# Altium footprint library Plain Ji_PCB_Lib.PcbLib: 31 footprints (part 2 of 2)
Each footprint in its own frame and in the unit in brackets; x right, y up, seen from the top. Pads: shape width x height; smd on the part's side, far side on the other; paste and mask are expansions set on the pad; w line width, h text height; cw(c..) or ccw(c..) is an arc to the next point about the centre after c.
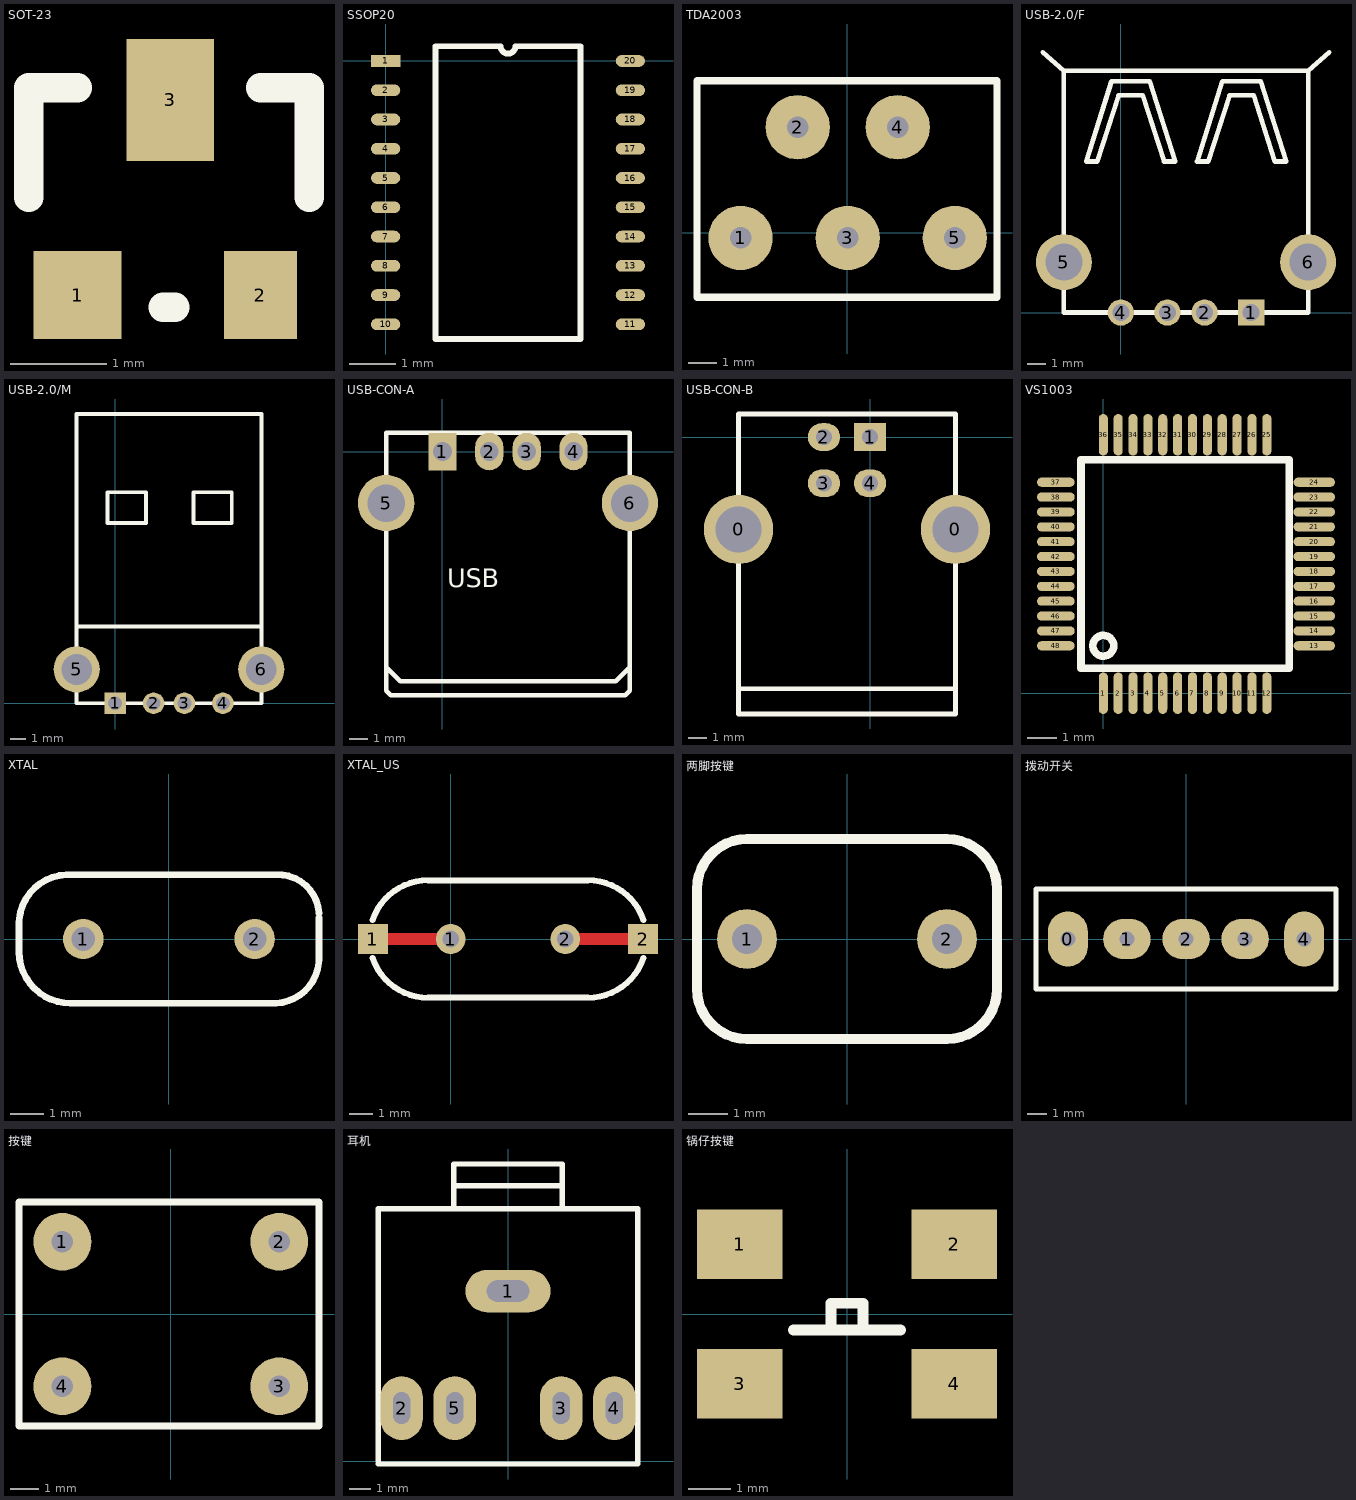
[diagram p1: the footprints below, top view; thin cyan lines are the x and y axes]

## SOT-23 [mil]
pads (3):
  rect 36x36 smd: 1(47.76,-120.28)
  rect 30x36 smd: 2(122.75,-120.28)
  rect 36x50 smd: 3(85.75,-40.28)
Top Overlay:
  lines w12: 27.75,-80.28 27.75,-35.28 47.76,-35.28 ; 82.75,-125.28 87.75,-125.28 ; 122.75,-35.28 142.75,-35.28 142.75,-80.28

## SSOP20 [mil]
pads (20):
  rect 25x10 smd: 1(0,0)
  oval 25x10 smd: 2(0,-25) 3(0,-50) 4(0,-75) 5(0,-100) 6(0,-125) 7(0,-150) 8(0,-175) 9(0,-200) 10(0,-225) 11(209,-225) 12(209,-200) 13(209,-175) 14(209,-150) 15(209,-125) 16(209,-100) 17(209,-75) 18(209,-50) 19(209,-25) 20(209,0)
Top Overlay:
  lines w5: 42.5,-237.5 166.5,-237.5 166.5,12.5 110.75,12.5 cw(c104.5,12.5) 98.25,12.5 42.5,12.5 42.5,-237.5

## TDA2003 [mil]
pads (5):
  round 90 hole 30: 1(-149,-7) 2(-69,148) 3(1,-7) 4(71,148) 5(151,-7)
Top Overlay:
  lines w10: -210,-90 -210,213 210,213 210,-90 -210,-90

## USB-2.0/F [mm]
pads (6):
  rect 1.42x1.42 hole 0.92: 1(7,0)
  round 1.42 hole 0.92: 2(4.5,0) 3(2.5,0) 4(0,0)
  round 3 hole 2: 5(-3.07,2.71) 6(10.07,2.71)
Top Overlay:
  lines w0.254: -4.2,14 -3.07,13.01 ; -3.104,13.01 -3.07,13.01 ; 1.524,12.446 -0.508,12.446 -1.873,8.128 -1.27,8.128 -0.127,11.684 1.175,11.684 2.318,8.128 2.921,8.128 1.556,12.446 ; 7.493,12.446 5.461,12.446 4.096,8.128 4.699,8.128 5.842,11.684 7.144,11.684 8.287,8.128 8.89,8.128 7.525,12.446 ; 10.089,13.01 10.07,13.01 ; 11.2,14 10.07,13.01 ; -3.07,13.01 -3.07,0 10.07,0 10.07,13.01 ; -3.07,13.01 10.07,13.01

## USB-2.0/M [mm]
pads (6):
  rect 1.4x1.4 hole 0.9: 1(0,0)
  round 1.4 hole 0.9: 2(2.5,0) 3(4.5,0) 4(7,0)
  round 3 hole 2: 5(-2.5,2.2) 6(9.5,2.2)
Top Overlay:
  lines w0.254: -2.5,5 9.5,5 ; -2.5,0 -2.5,18.8 9.5,18.8 9.5,0 -2.5,0 ; -0.508,11.716 1.992,11.716 1.992,13.716 -0.508,13.716 -0.508,11.716 ; 5.08,11.716 7.58,11.716 7.58,13.716 5.08,13.716 5.08,11.716

## USB-CON-A [mil]
pads (6):
  rect 60x80 hole 40: 1(0,0)
  oval 60x80 hole 40: 2(100,0) 3(180,0) 4(280,0)
  round 120 hole 80: 5(-120,-110) 6(400,-110)
Top Overlay:
  lines w10: -120,-460 -90,-490 370,-490 400,-460 ; -120,-510 -120,40 400,40 400,-510 390,-520 -110,-520 -120,-510
  text "USB" at 10,-290 h40

## USB-CON-B [mil]
pads (6):
  round 150 hole 100: 0(-285,-200) 0(185,-200)
  rect 70x60 hole 35: 1(0,0)
  oval 70x60 hole 35: 2(-100,0) 3(-100,-100) 4(0,-100)
Top Overlay:
  lines w10: -285,-545 185,-545 ; -285,-230 -285,-600 185,-600 185,-225 ; -285,-170 -285,50 185,50 185,-170

## VS1003 [mil]
pads (48):
  oval 12x55 smd: 1(0,0) 2(19.68,0) 3(39.37,0) 4(59.06,0) 5(78.74,0) 6(98.43,0) 7(118.11,0) 8(137.8,0) 9(157.48,0) 10(177.17,0) 11(196.85,0) 12(216.54,0) 25(216.54,342.2) 26(196.85,342.2) 27(177.17,342.2) 28(157.48,342.2) 29(137.8,342.2) 30(118.11,342.2) 31(98.43,342.2) 32(78.74,342.2) 33(59.06,342.2) 34(39.37,342.2) 35(19.68,342.2) 36(0,342.2)
  oval 55x12 smd: 13(279.37,62.83) 14(279.37,82.52) 15(279.37,102.2) 16(279.37,121.89) 17(279.37,141.57) 18(279.37,161.26) 19(279.37,180.94) 20(279.37,200.63) 21(279.37,220.31) 22(279.37,240) 23(279.37,259.69) 24(279.37,279.37)
  oval 50x12 smd: 37(-62.83,279.37) 38(-62.83,259.69) 39(-62.83,240) 40(-62.83,220.31) 41(-62.83,200.63) 42(-62.83,180.94) 43(-62.83,161.26) 44(-62.83,141.57) 45(-62.83,121.89) 46(-62.83,102.2) 47(-62.83,82.52) 48(-62.83,62.83)
Top Overlay:
  circle w10: c0,62.83 r13.78
  lines w10: -29.53,33.31 246.06,33.31 246.06,308.9 -29.53,308.9 -29.53,33.31

## XTAL [mm]
pads (2):
  round 1.2 hole 0.7: 1(-2.54,0) 2(2.54,0)
Top Overlay:
  lines w0.2: -4.445,0.381 cw(c-2.984,0.445) -3.048,1.905 3.175,1.905 cw(c3.238,0.699) 4.445,0.762 ; -4.445,0.508 -4.445,-0.381 ccw(c-2.921,-0.381) -2.921,-1.905 3.175,-1.905 ccw(c3.111,-0.572) 4.445,-0.508 ; 4.445,-0.635 4.445,0.635

## XTAL_US [mil]
pads (4):
  rect 50x50 smd: 1(-130.32,0) 2(322.44,0)
  round 50 hole 28: 1(0,0) 2(192.13,0)
Top Layer:
  lines w20: -133.86,0 0,0 ; 192.91,0 326.77,0
Top Overlay:
  lines w10: -130.92,-31.85 ccw(c-37.79,0) -37.79,-98.42 ; -130.92,31.85 cw(c-37.79,0) -37.79,98.43 ; -38,98.42 229.92,98.43 cw(c229.92,0) 323.05,31.85 ; -37.8,-98.43 229.92,-98.42 ccw(c229.92,0) 323.05,-31.85

## 两脚按键 [mil]
pads (2):
  round 60 hole 30: 1(-100,0) 2(100,0)
Top Overlay:
  lines w10: -150,-50 ccw(c-100,-50) -100,-100 100,-100 ccw(c100,-50) 150,-50 150,50 ccw(c100,50) 100,100 -100,100 ccw(c-100,50) -150,50 -150,-50

## 拨动开关 [mil]
pads (5):
  oval 80x110 hole 30: 0(-236.22,0) 4(236.22,0)
  oval 95x80 hole 30: 1(-118.11,0) 2(0,0) 3(118.11,0)
Top Overlay:
  lines w10: -300,-100 300,-100 300,100 -300,100 -300,-100

## 按键 [mil]
pads (4):
  round 80 hole 30: 1(-150,100) 2(150,100) 3(150,-100) 4(-150,-100)
Top Overlay:
  lines w10: -210,-155 205,-155 205,155 -210,155 -210,-155

## 耳机 [mm]
pads (5):
  oval 4x2 hole 1 slot 2 at 0 deg: 1(0,8)
  oval 2x3 hole 0.8 slot 1.5 at 90 deg: 2(-5,2.5) 3(2.5,2.5) 4(5,2.5) 5(-2.5,2.5)
Top Overlay:
  lines w0.254: -6.096,-0.127 6.096,-0.127 6.096,11.873 -6.096,11.873 -6.096,0 ; -2.54,11.873 -2.54,13.97 2.54,13.97 2.54,11.873 ; -2.54,12.954 2.413,12.954

## 锅仔按键 [mil]
pads (4):
  rect 80x65 smd: 1(-100,65) 2(100,65) 3(-100,-65) 4(100,-65)
Top Overlay:
  lines w10: -50,-15 50,-15 ; -15,-15 -15,10 15,10 15,-15